# EAGLE library part HIROSE_6PIN_FEMALE (library SKAARHOJ)
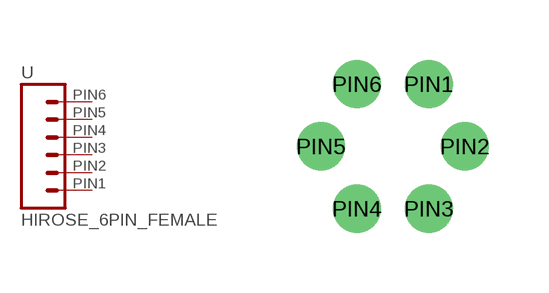
[diagram p48: symbol with the pads of HIROSE_6PIN_RECEP; footprint HIROSE_6PIN_RECEP]

Designator prefix -

## HIROSE_6PIN_FEMALE  [HIROSE_6PIN_RECEP]
PIN1  1  pas
PIN2  2  pas
PIN3  3  pas
PIN4  4  pas
PIN5  5  pas
PIN6  6  pas

## Footprint HIROSE_6PIN_RECEP (pad centres in mm)
drill 0.7: PIN1 0.9,1.56; PIN2 1.8,0; PIN3 0.9,-1.56; PIN4 -0.9,-1.56; PIN5 -1.8,0; PIN6 -0.9,1.56